# EAGLE library part PIN_16 (library dooba)
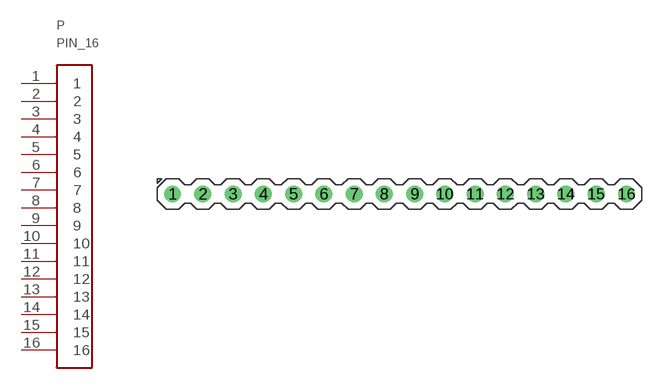
[diagram p9: symbol with the pads of PIN_16; footprint PIN_16]

Designator prefix P

## PIN_16  [PIN_16]
1  1
2  2
3  3
4  4
5  5
6  6
7  7
8  8
9  9
10  10
11  11
12  12
13  13
14  14
15  15
16  16

## Footprint PIN_16 (pad centres in mm)
drill 0.8 pad 1.422: 1 -19.05,0; 2 -16.51,0; 3 -13.97,0; 4 -11.43,0; 5 -8.89,0; 6 -6.35,0; 7 -3.81,0; 8 -1.27,0; 9 1.27,0; 10 3.81,0; 11 6.35,0; 12 8.89,0; 13 11.43,0; 14 13.97,0; 15 16.51,0; 16 19.05,0